# EAGLE library part DRV8829PWP (library DRV8829PWP)
5A Half Bipolar Stepper Motor Driver with 32-Level Current Regulation (PH/EN Ctrl) Source: Datasheet <http://www.ti.com/product/DRV8829/datasheet>
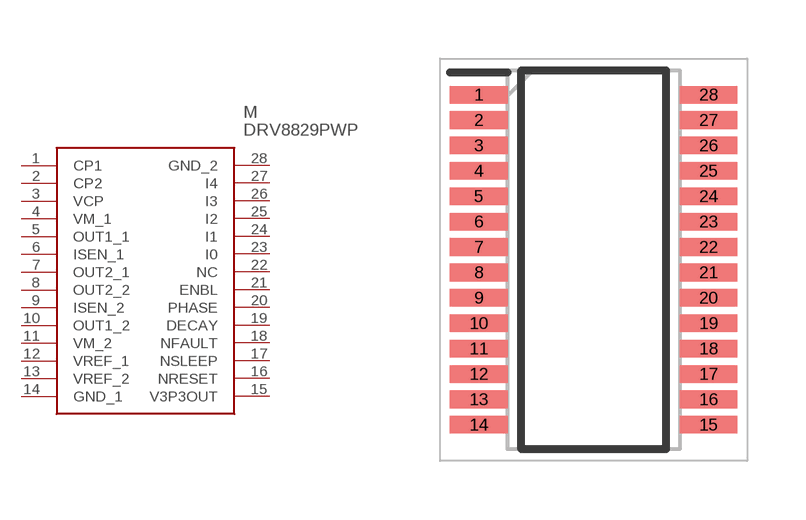
[diagram p0: symbol with the pads of SOP65P640X120-28N; footprint SOP65P640X120-28N]

Designator prefix M

## DRV8829PWP (Arrow_Part_Number: DRV8829PWP; Arrow_Price-Stock: https://www.arrow.com/en/products/drv8829pwp/texas-instruments; Description: 5A Half Bipolar Stepper Motor Driver with 32-Level Current Regulation (PH/EN Ctrl); Height: 1.2mm; Manufacturer_Name: Texas Instruments; Manufacturer_Part_Number: DRV8829PWP; Mouser_Part_Number: 595-DRV8829PWP; Mouser_Price-Stock: https://www.mouser.co.uk/ProductDetail/Texas-Instruments/DRV8829PWP?qs=UlfnwZ2x8nTwexgNYqnN7g%3D%3D)  [SOP65P640X120-28N]
1  CP1
2  CP2
3  VCP
4  VM_1  pwr
5  OUT1_1
6  ISEN_1
7  OUT2_1  out
8  OUT2_2  out
9  ISEN_2  pwr
10  OUT1_2  out
11  VM_2  pwr
12  VREF_1  in
13  VREF_2  in
14  GND_1  pwr
15  V3P3OUT  out
16  NRESET  in
17  NSLEEP  in
18  NFAULT  out
19  DECAY  in
20  PHASE  in
21  ENBL  in
22  NC  nc
23  I0  in
24  I1  in
25  I2  in
26  I3  in
27  I4  in
28  GND_2  pwr

## Footprint SOP65P640X120-28N (pad centres in mm)
PWP (R-PDSO-G28)
smd 1.475 x 0.45: 1 -2.938,4.225; 2 -2.938,3.575; 3 -2.938,2.925; 4 -2.938,2.275; 5 -2.938,1.625; 6 -2.938,0.975; 7 -2.938,0.325; 8 -2.938,-0.325; 9 -2.938,-0.975; 10 -2.938,-1.625; 11 -2.938,-2.275; 12 -2.938,-2.925; 13 -2.938,-3.575; 14 -2.938,-4.225; 15 2.938,-4.225; 16 2.938,-3.575; 17 2.938,-2.925; 18 2.938,-2.275; 19 2.938,-1.625; 20 2.938,-0.975; 21 2.938,-0.325; 22 2.938,0.325; 23 2.938,0.975; 24 2.938,1.625; 25 2.938,2.275; 26 2.938,2.925; 27 2.938,3.575; 28 2.938,4.225